# Altium footprint library Terminal.PcbLib: 11 footprints
Each footprint in its own frame and in the unit in brackets; x right, y up, seen from the top. Pads: shape width x height; smd on the part's side, far side on the other; paste and mask are expansions set on the pad; w line width, h text height; cw(c..) or ccw(c..) is an arc to the next point about the centre after c.
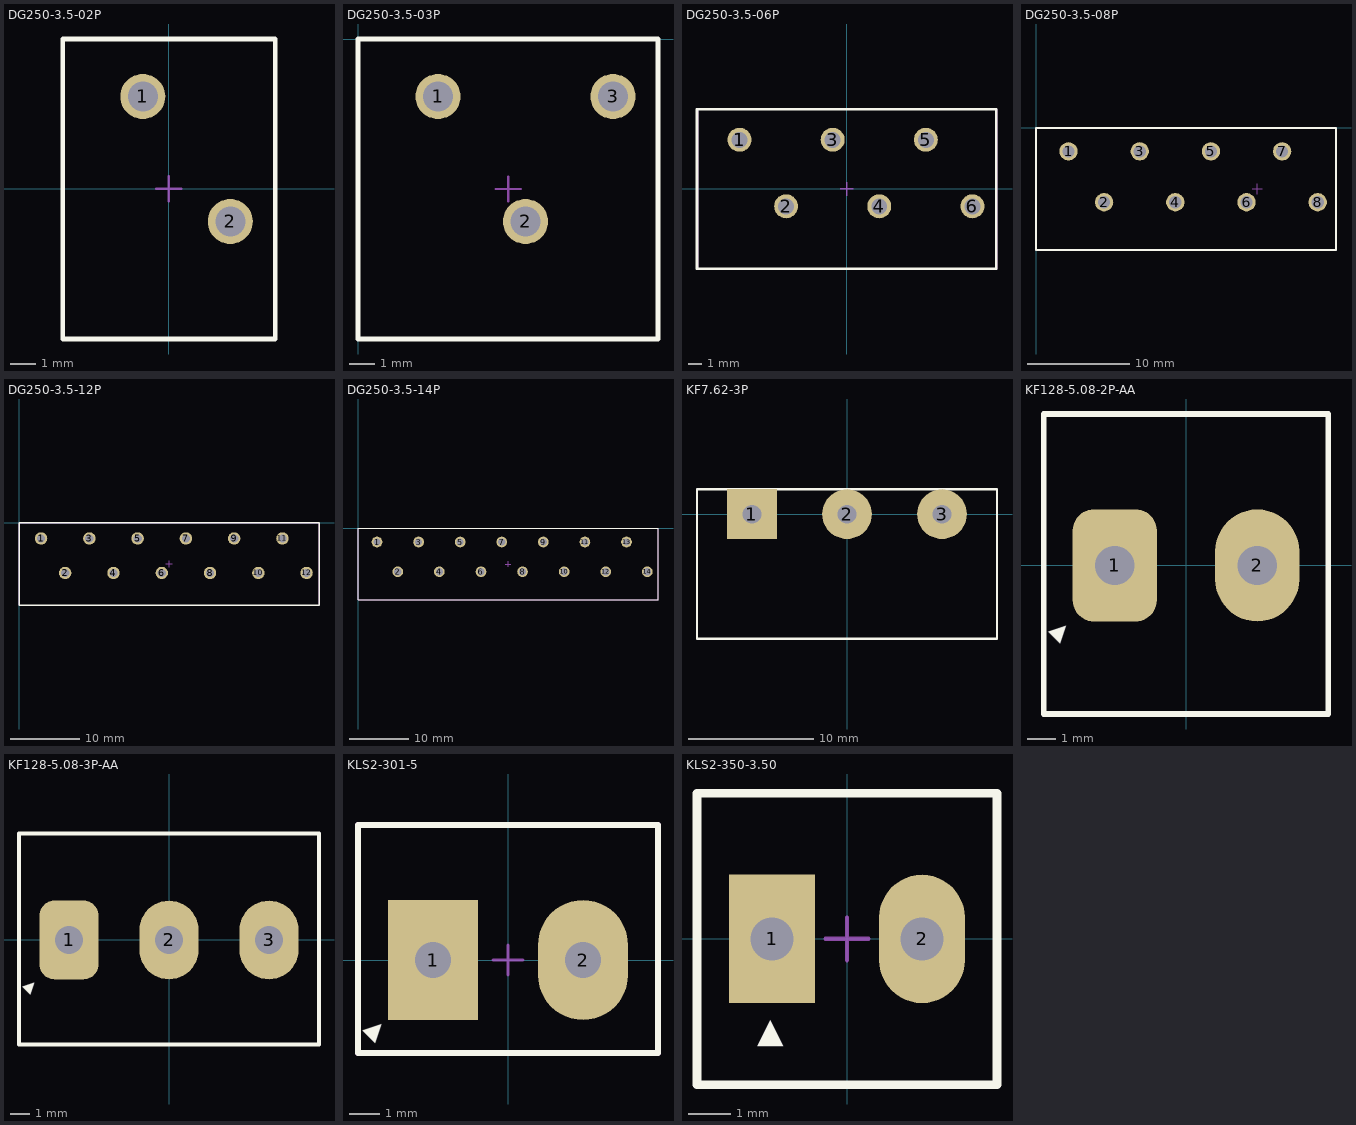
[diagram p0: the footprints below, top view; thin cyan lines are the x and y axes]

## DG250-3.5-02P [mm] "PCB spring terminal blocks,Rated current:10A.Rated voltage (III/2):320V,pitch:3.5mm,Color:gray,Contact surface :Tin"
pads (2):
  round 1.8 hole 1.2 mask+0.05: 1(-1.05,3.7) 2(2.45,-1.3)
Top Overlay:
  lines w0.2: -4.25,-6 -4.25,6 4.25,6 4.25,-6 -4.25,-6
Top Assembly:
  lines w0.1: -4.25,-6 -4.25,6 4.25,6 4.25,-6 -4.25,-6
Top Courtyard:
  lines w0.05: -4.25,-6 -4.25,6 4.25,6 4.25,-6 -4.25,-6
Top Component Center:
  lines w0.1: -0.5,0 0.5,0 ; 0,-0.5 0,0.5
3D body "DG250-3.5-02P-11-00AH.stp": height 13.2, standoff -3.5, extent -4.25,-6 4.25,6

## DG250-3.5-03P [mm] "PCB spring terminal blocks,Rated current:10A.Rated voltage (III/2):320V,pitch:3.5mm,Color:gray,Contact surface :Tin"
pads (3):
  round 1.8 hole 1.2 mask+0.05: 1(3.2,-2.3) 2(6.7,-7.3) 3(10.2,-2.3)
Top Overlay:
  lines w0.2: 0,-12 12,-12 12,0 0,0 ; 0,-12 0,0 ; 0,-12 0,0
Top Assembly:
  lines w0.1: 0,-12 12,-12 12,0 0,0 0,-12
Top Courtyard:
  lines w0.05: 0,-12 12,-12 12,0 0,0 0,-12
Top Component Center:
  lines w0.1: 5.5,-6 6.5,-6 ; 6,-6.5 6,-5.5
3D body "DG250-3.5-03P-11-00AH.stp": height 13.2, standoff -3.5, extent 0,-12 12,0

## DG250-3.5-06P [mm] "PCB spring terminal blocks,Rated current:10A.Rated voltage (III/2):320V,pitch:3.5mm,Color:gray,Contact surface :Tin"
pads (6):
  round 1.8 hole 1.2 mask+0.05: 1(-8.05,3.7) 2(-4.55,-1.3) 3(-1.05,3.7) 4(2.45,-1.3) 5(5.95,3.7) 6(9.45,-1.3)
Top Overlay:
  lines w0.2: -11.25,-6 11.25,-6 11.25,6 -11.25,6 -11.25,-6
Bottom Assembly:
  lines w0.1: -11.2,-6 -11.2,6 11.25,6 11.25,-6 -11.2,-6
Top Courtyard:
  lines w0.05: -11.25,-6 -11.25,6 11.3,6 11.3,-6 -11.25,-6
Top Component Center:
  lines w0.1: -0.5,0 0.5,0 ; 0,-0.5 0,0.5
3D body "DG250-3.5-06P-11-00AH.stp": height 13.2, standoff -3.5, extent -11.25,-6 11.25,6

## DG250-3.5-08P [mm] "PCB spring terminal blocks,Rated current:10A.Rated voltage (III/2):320V,pitch:3.5mm,Color:gray,Contact surface :Tin"
pads (8):
  round 1.8 hole 1.2 mask+0.05: 1(3.2,-2.3) 2(6.7,-7.3) 3(10.2,-2.3) 4(13.7,-7.3) 5(17.2,-2.3) 6(20.7,-7.3) 7(24.2,-2.3) 8(27.7,-7.3)
Top Overlay:
  lines w0.2: 0,-12 0,0 29.5,0 29.5,-12 0,-12
Top Assembly:
  lines w0.1: 0.001,-12.002 0.001,-0.002 29.5,-0.002 29.5,-12.002 0.001,-12.002
Top Courtyard:
  lines w0.05: 0,-12 29.5,-12 29.5,0 0,0 0,-12
Top Component Center:
  lines w0.1: 21.25,-6 22.25,-6 ; 21.75,-6.5 21.75,-5.5
3D body "DG250-3.5-08P-11-00AH.stp": height 13.2, standoff -3.5, extent 0.001,-12.002 29.501,-0.002

## DG250-3.5-12P [mm] "PCB spring terminal blocks,Rated current:10A.Rated voltage (III/2):320V,pitch:3.5mm,Color:gray,Contact surface :Tin"
pads (12):
  round 1.8 hole 1.2 mask+0.05: 1(3.2,-2.3) 2(6.7,-7.3) 3(10.2,-2.3) 4(13.7,-7.3) 5(17.2,-2.3) 6(20.7,-7.3) 7(24.2,-2.3) 8(27.7,-7.3) 9(31.2,-2.3) 10(34.7,-7.3) 11(38.2,-2.3) 12(41.7,-7.3)
Top Overlay:
  lines w0.2: 0,-12 43.5,-12 43.5,0 0,0 0,-12
Top Assembly:
  lines w0.1: 43.451,-12.002 0.001,-12.002 0.001,-0.002 43.451,-0.002 ; 43.5,-12.002 43.5,-0.002
Top Courtyard:
  lines w0.05: 0,-12 0,0 43.5,0 43.5,-12 0,-12
Top Component Center:
  lines w0.1: 21.25,-6 22.25,-6 ; 21.75,-6.5 21.75,-5.5
3D body "DG250-3.5-12P-11-00AH.stp": height 13.2, standoff -3.5, extent 0.001,-12.002 43.501,-0.002

## DG250-3.5-14P [mm] "PCB spring terminal blocks,Rated current:10A.Rated voltage (III/2):320V,pitch:3.5mm,Color:gray,Contact surface :Tin"
pads (14):
  round 1.8 hole 1.2 mask+0.05: 1(3.2,-2.3) 2(6.7,-7.3) 3(10.2,-2.3) 4(13.7,-7.3) 5(17.2,-2.3) 6(20.7,-7.3) 7(24.2,-2.3) 8(27.7,-7.3) 9(31.2,-2.3) 10(34.7,-7.3) 11(38.2,-2.3) 12(41.7,-7.3) 13(45.2,-2.3) 14(48.7,-7.3)
Top Overlay:
  lines w0.2: 0,-12 50.5,-12 50.5,0 0,0 0,-12
Top Assembly:
  lines w0.1: 0.05,-12 50.5,-12 50.5,0 0.05,0 0.05,-12
Top Courtyard:
  lines w0.05: 0,-12 0,0 48.75,0 50.5,0 50.5,-12 0,-12
Top Component Center:
  lines w0.1: 24.75,-6 25.75,-6 ; 25.25,-6.5 25.25,-5.5
3D body "DG250-3.5-14P-11-00AH.stp": height 13.2, standoff -3.5, extent 0,-12 50.5,0

## KF7.62-3P [mm]
pads (3):
  rect 4x4 hole 1.5: 1(-7.62,0)
  round 4 hole 1.5: 2(0,0) 3(7.62,0)
Top Overlay:
  lines w0.2: -12.03,-10 12.03,-10 12.03,2 -12.03,2 -12.03,-10
Top Courtyard:
  lines w0.05: -12.03,-10 -12.03,2 12.03,2 12.03,-10 -12.03,-10
3D body "Terminal Block - 7.62mm - 3 Pin.stp": height 12.22, standoff -5.08, extent -11.824,-10.3 12.713,1.714

## KF128-5.08-2P-AA [mm]
pads (2):
  rrect50% 3x4 hole 1.4 mask+0.05: 1(-2.54,0)
  oval 3x4 hole 1.4 mask+0.05: 2(2.54,0)
Top Overlay:
  lines w0.2: -5.08,-5.3 -5.08,5.4 5.08,5.4 5.08,-5.3 -5.08,-5.3
  text "▲" at -4.982,-2.442 h1
Top Assembly:
  lines w0.1: -5.08,-5.3 5.08,-5.3 5.08,5.4 -5.08,5.4 -5.08,-5.3
3D body "DG128-5.0-02P-14-00AH.STEP": height 14, standoff -3.5, extent -5.52,-5.05 5.08,5.15

## KF128-5.08-3P-AA [mm]
pads (3):
  rrect50% 3x4 hole 1.4 mask+0.05: 1(-5.08,0)
  oval 3x4 hole 1.4 mask+0.05: 2(0,0) 3(5.08,0)
Top Overlay:
  lines w0.2: -7.62,-5.3 -7.62,5.4 7.62,5.4 7.62,-5.3 -7.62,-5.3
  text "▲" at -7.522,-2.442 h1
Top Assembly:
  lines w0.1: -7.62,-5.3 7.62,-5.3 7.62,5.4 -7.62,5.4 -7.62,-5.3
3D body "DG128-5.0-03P-14-00AH.STEP": height 14, standoff -3.5, extent -7.98,-5.3 7.62,4.9

## KLS2-301-5 [mm] "Terminal Block KLS2-301-5.00-02P-2S (DG301-5.0-02P-12)"
pads (2):
  rect 3x4 hole 1.2 mask+0.05: 1(-2.5,0)
  rrect100% 3x4 hole 1.2 mask+0.05: 2(2.5,0)
Top Overlay:
  lines w0.2: -5,-3.1 5,-3.1 5,4.5 -5,4.5 -5,-3.1
  text "▲" at -4.931,-2.431 h1
Bottom Assembly:
  lines w0.2: -5,-3.1 5,-3.1 5,4.5 -5,4.5 -5,-3.1
Top Courtyard:
  lines w0.05: -5,-3.1 -5,4.5 5,4.5 5,-3.1 -5,-3.1
Top Component Center:
  lines w0.1: -0.5,0 0.5,0 ; 0,-0.5 0,0.5
3D body "DG301-5.0-02.stp": height 10, standoff -4.3, extent -5.6,-3.1 5,4.5

## KLS2-350-3.50 [mm] "Terminal Block KLS2-350-3.50-02P-2S (DG350-3.5-02P-12)"
pads (2):
  rect 2x3 hole 1 mask+0.05: 1(-1.75,0)
  rrect100% 2x3 hole 1 mask+0.05: 2(1.75,0)
Top Overlay:
  lines w0.2: 3.499,3.394 -3.501,3.394 -3.501,-3.399 ; 3.5,3.393 3.5,-3.4 -3.5,-3.4 ; -3.501,-3.399 -3.5,-3.4
  text "▲" at -2.1,-2.609 h1
Bottom Assembly:
  lines w0.1: 3.499,3.394 -3.501,3.394 -3.501,-3.399 ; 3.5,3.393 3.5,-3.4 -3.5,-3.4 ; -3.501,-3.399 -3.5,-3.4
Top Courtyard:
  lines w0.05: 3.499,3.394 -3.501,3.394 -3.501,-3.399 ; 3.5,3.393 3.5,-3.4 -3.5,-3.4 ; -3.501,-3.399 -3.5,-3.4
Top Component Center:
  lines w0.1: -0.5,0 0.5,0 ; 0,-0.5 0,0.5
3D body "DG350-3.5-02P-12-00AH.STEP": height 8.4, standoff -3.5, extent -4,-3.4 4,3.4